# EAGLE library part AB1805-T3 (library Carrier Board)
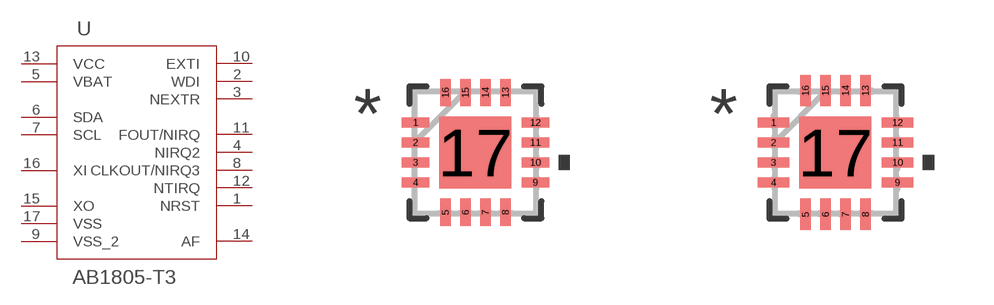
[diagram p1: symbol with the pads of QFN_16_ABR; footprints QFN_16_ABR, QFN_16_ABR-M]

Designator prefix U

## AB1805-T3 (BUILT_BY: Sunstream; DESCRIPTION: IC RTC CLK/CALENDAR I2C 16-QFN; MANUFACTURER: Abracon LLC; MANUFACTURER_PART_NUMBER: AB1805-T3; SOURCELIBRARY: Abracon_2019-05-15; VENDOR: Abracon)  [QFN_16_ABR]
1  NRST  out
2  WDI  in
3  NEXTR  in
4  NIRQ2  out
5  VBAT  pwr
6  SDA
7  SCL  in
8  CLKOUT/NIRQ3  out
9  VSS_2  pwr
10  EXTI  in
11  FOUT/NIRQ  out
12  NTIRQ  out
13  VCC  pwr
14  AF  out
15  XO  out
16  XI  in
17  VSS  pwr

## AB1805-T3QFN_16_ABR-M (BUILT_BY: Sunstream; DESCRIPTION: IC RTC CLK/CALENDAR I2C 16-QFN; MANUFACTURER: Abracon LLC; MANUFACTURER_PART_NUMBER: AB1805-T3; SOURCELIBRARY: Abracon_2019-05-15; VENDOR: Abracon)  [QFN_16_ABR-M]
Pads as for QFN_16_ABR

## AB1805-T3QFN_16_ABR-L (BUILT_BY: Sunstream; DESCRIPTION: IC RTC CLK/CALENDAR I2C 16-QFN; MANUFACTURER: Abracon LLC; MANUFACTURER_PART_NUMBER: AB1805-T3; SOURCELIBRARY: Abracon_2019-05-15; VENDOR: Abracon)  [QFN_16_ABR-L]
Pads as for QFN_16_ABR

## Footprint QFN_16_ABR (pad centres in mm)
smd 0.686 x 0.254: 1 -1.499,0.75; 2 -1.499,0.25; 3 -1.499,-0.25; 4 -1.499,-0.75; 9 1.499,-0.75; 10 1.499,-0.25; 11 1.499,0.25; 12 1.499,0.75
smd 0.254 x 0.686: 5 -0.75,-1.499; 6 -0.25,-1.499; 7 0.25,-1.499; 8 0.75,-1.499; 13 0.75,1.499; 14 0.25,1.499; 15 -0.25,1.499; 16 -0.75,1.499
smd 1.8 x 1.8: 17 0,0

## Footprint QFN_16_ABR-M (pad centres in mm)
smd 0.787 x 0.254: 1 -1.549,0.75; 2 -1.549,0.25; 3 -1.549,-0.25; 4 -1.549,-0.75; 9 1.549,-0.75; 10 1.549,-0.25; 11 1.549,0.25; 12 1.549,0.75
smd 0.254 x 0.787: 5 -0.75,-1.549; 6 -0.25,-1.549; 7 0.25,-1.549; 8 0.75,-1.549; 13 0.75,1.549; 14 0.25,1.549; 15 -0.25,1.549; 16 -0.75,1.549
smd 1.8 x 1.8: 17 0,0

## Footprint QFN_16_ABR-L (pad centres in mm)
smd 0.584 x 0.254: 1 -1.448,0.75; 2 -1.448,0.25; 3 -1.448,-0.25; 4 -1.448,-0.75; 9 1.448,-0.75; 10 1.448,-0.25; 11 1.448,0.25; 12 1.448,0.75
smd 0.254 x 0.584: 5 -0.75,-1.448; 6 -0.25,-1.448; 7 0.25,-1.448; 8 0.75,-1.448; 13 0.75,1.448; 14 0.25,1.448; 15 -0.25,1.448; 16 -0.75,1.448
smd 1.8 x 1.8: 17 0,0